# Altium integrated library Analog Devices Data Converters Digital-to-Analog Converters.IntLib: 2231 symbols (part 166 of 181)
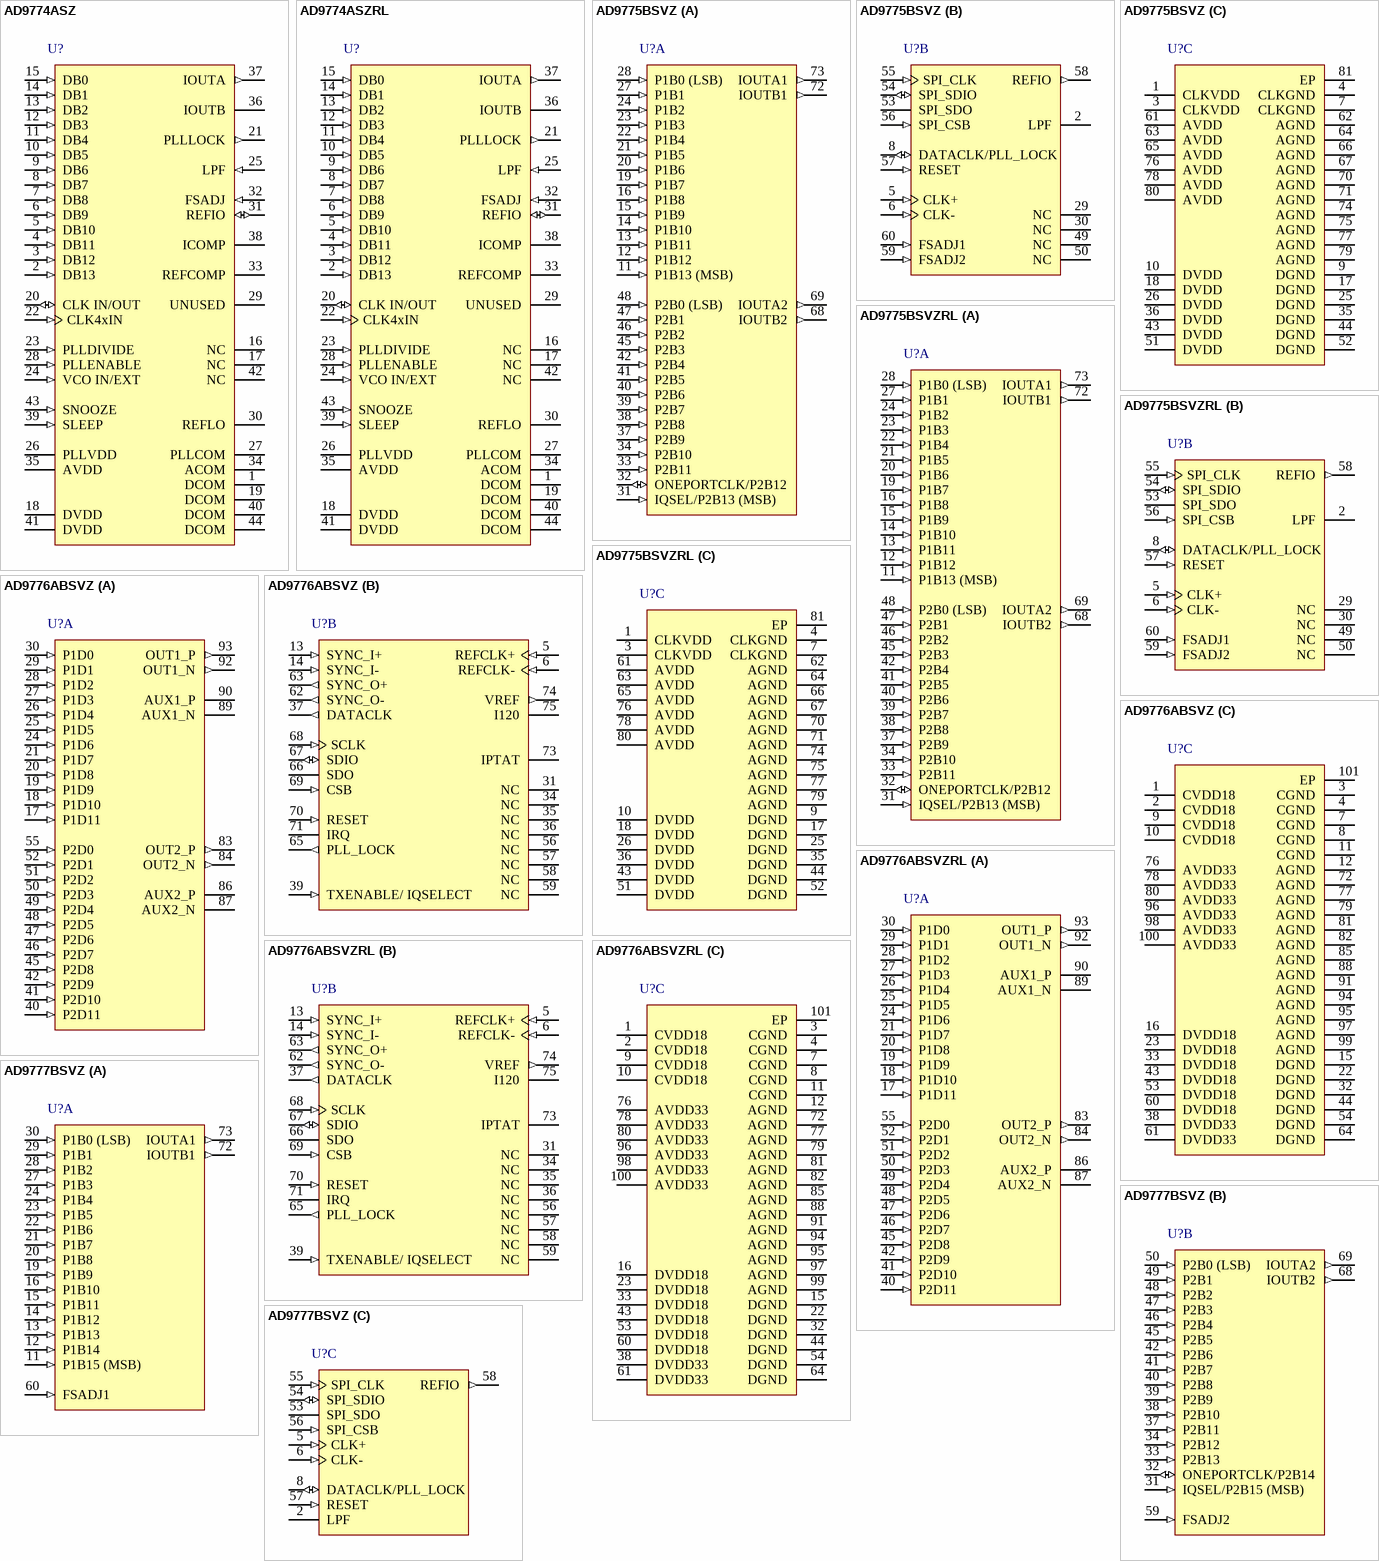
[diagram p279: symbols AD9774ASZ to AD9777BSVZ]

## AD9775BSVZ
designator U?
Dual 14-Bit TxDAC+ with 2x / 4x / 8x Interpolating Filter, 160 Msps, -40 to +85 degC, SV-80-1, Pb-Free, Tray; Generic Part Number: AD9775; Manufacturer: Analog Devices; PartNumber: AD9775BSVZ; # DAC Outputs: 2; Max V+: 3.5V; Op Pwr Diss: 410mW; Resolution (Bits): 14; Settling Time: 11ns; Single Supply: Yes; DatasheetVersion: Rev.E; PackageVersion: Oct-2005; PackageReference: SV-80-1; PackageDescription: 80-Lead Thin Quad Flat Package, Exposed Pad [TQFP_EP]; Supplier 1: Digi-Key; Supplier Part Number 1: AD9775BSVZ-ND; Supplier 2: Mouser; Supplier Part Number 2: 584-AD9775BSVZ; Packing: Tray; RoHS: Y; Mounting Technology: Surface Mount; Code_JEDEC: MS-026-ADD-HD; ComponentLink1Description: Manufacturer URL; ComponentLink1URL: http://www.analog.com/en/index.html; ComponentLink2Description: Datasheet; ComponentLink2URL: http://www.analog.com/static/imported-files/data_sheets/AD9775.pdf; ComponentLink3Description: Package Specification; ComponentLink3URL: http://www.analog.com/static/imported-files/packages/3250240192292635369SV_80_1.pdf; ComponentLink4Description: Product URL; ComponentLink4URL: http://www.analog.com/en/digital-to-analog-converters/da-converters/ad9775/products/product.html
footprint SV-80-1_N (Thin QFP, 80-Leads, Body 12x12mm, Pitch 0.5mm, Thermal Pad 6x6mm, IPC Medium Density)
footprint SV-80-1_L (Thin QFP, 80-Leads, Body 12x12mm, Pitch 0.5mm, Thermal Pad 6x6mm, IPC High Density)
footprint SV-80-1_M (Thin QFP, 80-Leads, Body 12x12mm, Pitch 0.5mm, Thermal Pad 6x6mm, IPC Low Density)
part A pins: 11 P1B13 (MSB) (in) "Port 1 Data Input.", 12 P1B12 (in) "Port 1 Data Input.", 13 P1B11 (in) "Port 1 Data Input.", 14 P1B10 (in) "Port 1 Data Input.", 15 P1B9 (in) "Port 1 Data Input.", 16 P1B8 (in) "Port 1 Data Input.", 19 P1B7 (in) "Port 1 Data Input.", 20 P1B6 (in) "Port 1 Data Input.", 21 P1B5 (in) "Port 1 Data Input.", 22 P1B4 (in) "Port 1 Data Input.", 23 P1B3 (in) "Port 1 Data Input.", 24 P1B2 (in) "Port 1 Data Input.", 27 P1B1 (in) "Port 1 Data Input.", 28 P1B0 (LSB) (in) "Port 1 Data Input.", 31 IQSEL/P2B13 (MSB) (in) "In one-port mode, IQSEL = 1 followed by a rising edge of the differential input clock latches the data into the I channel input register. IQSEL = 0 latches the data into the Q channel input register. In two-port mode, this (See Datasheet)", 32 ONEPORTCLK/P2B12 (io) "With the PLL disabled and the AD9773 in one-port mode, this pin becomes a clock output that runs at twice the input data rate of the I and Q channels. This allows the AD9773 to accept and demux interleaved I and Q data to (See Datasheet)", 33 P2B11 (in) "Port 2 Data Input.", 34 P2B10 (in) "Port 2 Data Input.", 37 P2B9 (in) "Port 2 Data Input.", 38 P2B8 (in) "Port 2 Data Input.", 39 P2B7 (in) "Port 2 Data Input.", 40 P2B6 (in) "Port 2 Data Input.", 41 P2B5 (in) "Port 2 Data Input.", 42 P2B4 (in) "Port 2 Data Input.", 45 P2B3 (in) "Port 2 Data Input.", 46 P2B2 (in) "Port 2 Data Input.", 47 P2B1 (in) "Port 2 Data Input.", 48 P2B0 (LSB) (in) "Port 2 Data Input.", 68 IOUTB2 (out) "Differential DAC Current Output, Q Channel.", 69 IOUTA2 (out) "Differential DAC Current Output, Q Channel.", 72 IOUTB1 (out) "Differential DAC Current Output, I Channel.", 73 IOUTA1 (out) "Differential DAC Current Output, I Channel."
part B pins: 2 LPF "PLL Loop Filter.", 5 CLK+ (in) "Differential Clock Input.", 6 CLK- (in) "Differential Clock Input.", 8 DATACLK/PLL_LOCK (io) "With the PLL enabled, this pin indicates the state of the PLL. A read of a Logic 1 indicates the PLL is in the locked state. Logic 0 indicates the PLL has not achieved lock. This pin can also be programmed to act as either (See Datasheet)", 29 NC "No Connect.", 30 NC "No Connect.", 49 NC "No Connect.", 50 NC "No Connect.", 53 SPI_SDO (hiz) "In the case where SDIO is an input, SDO acts as an output. When SDIO becomes an output, SDO enters a high-Z state. This pin can also be used as an output for the data rate clock. For more information, see the Two-Port Data (See Datasheet)", 54 SPI_SDIO (io) "Bidirectional Data Pin. Data direction is controlled by Bit 7 of Register Address 0x00. The default setting for this bit is 0, which sets SDIO as an input.", 55 SPI_CLK (in) "Data input to the SPI port is registered on the rising edge of SPI_CLK. Data output on the SPI port is registered on the falling edge.", 56 SPI_CSB (in) "Chip Select/SPI Data Synchronization. On momentary logic high, resets SPI port logic and initializes instruction cycle.", 57 RESET (in) "Logic 1 resets all of the SPI port registers, including Address 0x00, to their default values. A software reset can also be done by writing a Logic 1 to SPI Register 0x00, Bit 5. However, the software reset has no effect on (See Datasheet)", 58 REFIO (out) "Reference Output, 1.2 V Nominal.", 59 FSADJ2 (in) "Full-Scale Current Adjust, Q Channel.", 60 FSADJ1 (in) "Full-Scale Current Adjust, I Channel."
part C pins: 1 CLKVDD (power) "Clock Supply Voltage.", 3 CLKVDD (power) "Clock Supply Voltage.", 4 CLKGND (power) "Clock Supply Common.", 7 CLKGND (power) "Clock Supply Common.", 9 DGND (power) "Digital Common.", 10 DVDD (power) "Digital Supply Voltage.", 17 DGND (power) "Digital Common.", 18 DVDD (power) "Digital Supply Voltage.", 25 DGND (power) "Digital Common.", 26 DVDD (power) "Digital Supply Voltage.", 35 DGND (power) "Digital Common.", 36 DVDD (power) "Digital Supply Voltage.", 43 DVDD (power) "Digital Supply Voltage.", 44 DGND (power) "Digital Common.", 51 DVDD (power) "Digital Supply Voltage.", 52 DGND (power) "Digital Common.", 61 AVDD (power) "Analog Supply Voltage.", 62 AGND (power) "Analog Common.", 63 AVDD (power) "Analog Supply Voltage.", 64 AGND (power) "Analog Common.", 65 AVDD (power) "Analog Supply Voltage.", 66 AGND (power) "Analog Common.", 67 AGND (power) "Analog Common.", 70 AGND (power) "Analog Common.", 71 AGND (power) "Analog Common.", 74 AGND (power) "Analog Common.", 75 AGND (power) "Analog Common.", 76 AVDD (power) "Analog Supply Voltage.", 77 AGND (power) "Analog Common.", 78 AVDD (power) "Analog Supply Voltage.", 79 AGND (power) "Analog Common.", 80 AVDD (power) "Analog Supply Voltage.", 81 EP "Exposed Pad."

## AD9775BSVZRL
designator U?
Dual 14-Bit TxDAC+ with 2x / 4x / 8x Interpolating Filter, 160 Msps, -40 to +85 degC, SV-80-1, Pb-Free, Reel; Generic Part Number: AD9775; Manufacturer: Analog Devices; PartNumber: AD9775BSVZRL; # DAC Outputs: 2; Max V+: 3.5V; Op Pwr Diss: 410mW; Resolution (Bits): 14; Settling Time: 11ns; Single Supply: Yes; DatasheetVersion: Rev.E; PackageVersion: Oct-2005; PackageReference: SV-80-1; PackageDescription: 80-Lead Thin Quad Flat Package, Exposed Pad [TQFP_EP]; Supplier 1: Digi-Key; Supplier Part Number 1: AD9775BSVZRL-ND; Supplier 2: Mouser; Supplier Part Number 2: 584-AD9775BSVZR; Packing: Reel; RoHS: Y; Mounting Technology: Surface Mount; Code_JEDEC: MS-026-ADD-HD; ComponentLink1Description: Manufacturer URL; ComponentLink1URL: http://www.analog.com/en/index.html; ComponentLink2Description: Datasheet; ComponentLink2URL: http://www.analog.com/static/imported-files/data_sheets/AD9775.pdf; ComponentLink3Description: Package Specification; ComponentLink3URL: http://www.analog.com/static/imported-files/packages/3250240192292635369SV_80_1.pdf; ComponentLink4Description: Product URL; ComponentLink4URL: http://www.analog.com/en/digital-to-analog-converters/da-converters/ad9775/products/product.html
footprint SV-80-1_N (Thin QFP, 80-Leads, Body 12x12mm, Pitch 0.5mm, Thermal Pad 6x6mm, IPC Medium Density)
footprint SV-80-1_L (Thin QFP, 80-Leads, Body 12x12mm, Pitch 0.5mm, Thermal Pad 6x6mm, IPC High Density)
footprint SV-80-1_M (Thin QFP, 80-Leads, Body 12x12mm, Pitch 0.5mm, Thermal Pad 6x6mm, IPC Low Density)
part A pins: 11 P1B13 (MSB) (in) "Port 1 Data Input.", 12 P1B12 (in) "Port 1 Data Input.", 13 P1B11 (in) "Port 1 Data Input.", 14 P1B10 (in) "Port 1 Data Input.", 15 P1B9 (in) "Port 1 Data Input.", 16 P1B8 (in) "Port 1 Data Input.", 19 P1B7 (in) "Port 1 Data Input.", 20 P1B6 (in) "Port 1 Data Input.", 21 P1B5 (in) "Port 1 Data Input.", 22 P1B4 (in) "Port 1 Data Input.", 23 P1B3 (in) "Port 1 Data Input.", 24 P1B2 (in) "Port 1 Data Input.", 27 P1B1 (in) "Port 1 Data Input.", 28 P1B0 (LSB) (in) "Port 1 Data Input.", 31 IQSEL/P2B13 (MSB) (in) "In one-port mode, IQSEL = 1 followed by a rising edge of the differential input clock latches the data into the I channel input register. IQSEL = 0 latches the data into the Q channel input register. In two-port mode, this (See Datasheet)", 32 ONEPORTCLK/P2B12 (io) "With the PLL disabled and the AD9773 in one-port mode, this pin becomes a clock output that runs at twice the input data rate of the I and Q channels. This allows the AD9773 to accept and demux interleaved I and Q data to (See Datasheet)", 33 P2B11 (in) "Port 2 Data Input.", 34 P2B10 (in) "Port 2 Data Input.", 37 P2B9 (in) "Port 2 Data Input.", 38 P2B8 (in) "Port 2 Data Input.", 39 P2B7 (in) "Port 2 Data Input.", 40 P2B6 (in) "Port 2 Data Input.", 41 P2B5 (in) "Port 2 Data Input.", 42 P2B4 (in) "Port 2 Data Input.", 45 P2B3 (in) "Port 2 Data Input.", 46 P2B2 (in) "Port 2 Data Input.", 47 P2B1 (in) "Port 2 Data Input.", 48 P2B0 (LSB) (in) "Port 2 Data Input.", 68 IOUTB2 (out) "Differential DAC Current Output, Q Channel.", 69 IOUTA2 (out) "Differential DAC Current Output, Q Channel.", 72 IOUTB1 (out) "Differential DAC Current Output, I Channel.", 73 IOUTA1 (out) "Differential DAC Current Output, I Channel."
part B pins: 2 LPF "PLL Loop Filter.", 5 CLK+ (in) "Differential Clock Input.", 6 CLK- (in) "Differential Clock Input.", 8 DATACLK/PLL_LOCK (io) "With the PLL enabled, this pin indicates the state of the PLL. A read of a Logic 1 indicates the PLL is in the locked state. Logic 0 indicates the PLL has not achieved lock. This pin can also be programmed to act as either (See Datasheet)", 29 NC "No Connect.", 30 NC "No Connect.", 49 NC "No Connect.", 50 NC "No Connect.", 53 SPI_SDO (hiz) "In the case where SDIO is an input, SDO acts as an output. When SDIO becomes an output, SDO enters a high-Z state. This pin can also be used as an output for the data rate clock. For more information, see the Two-Port Data (See Datasheet)", 54 SPI_SDIO (io) "Bidirectional Data Pin. Data direction is controlled by Bit 7 of Register Address 0x00. The default setting for this bit is 0, which sets SDIO as an input.", 55 SPI_CLK (in) "Data input to the SPI port is registered on the rising edge of SPI_CLK. Data output on the SPI port is registered on the falling edge.", 56 SPI_CSB (in) "Chip Select/SPI Data Synchronization. On momentary logic high, resets SPI port logic and initializes instruction cycle.", 57 RESET (in) "Logic 1 resets all of the SPI port registers, including Address 0x00, to their default values. A software reset can also be done by writing a Logic 1 to SPI Register 0x00, Bit 5. However, the software reset has no effect on (See Datasheet)", 58 REFIO (out) "Reference Output, 1.2 V Nominal.", 59 FSADJ2 (in) "Full-Scale Current Adjust, Q Channel.", 60 FSADJ1 (in) "Full-Scale Current Adjust, I Channel."
part C pins: 1 CLKVDD (power) "Clock Supply Voltage.", 3 CLKVDD (power) "Clock Supply Voltage.", 4 CLKGND (power) "Clock Supply Common.", 7 CLKGND (power) "Clock Supply Common.", 9 DGND (power) "Digital Common.", 10 DVDD (power) "Digital Supply Voltage.", 17 DGND (power) "Digital Common.", 18 DVDD (power) "Digital Supply Voltage.", 25 DGND (power) "Digital Common.", 26 DVDD (power) "Digital Supply Voltage.", 35 DGND (power) "Digital Common.", 36 DVDD (power) "Digital Supply Voltage.", 43 DVDD (power) "Digital Supply Voltage.", 44 DGND (power) "Digital Common.", 51 DVDD (power) "Digital Supply Voltage.", 52 DGND (power) "Digital Common.", 61 AVDD (power) "Analog Supply Voltage.", 62 AGND (power) "Analog Common.", 63 AVDD (power) "Analog Supply Voltage.", 64 AGND (power) "Analog Common.", 65 AVDD (power) "Analog Supply Voltage.", 66 AGND (power) "Analog Common.", 67 AGND (power) "Analog Common.", 70 AGND (power) "Analog Common.", 71 AGND (power) "Analog Common.", 74 AGND (power) "Analog Common.", 75 AGND (power) "Analog Common.", 76 AVDD (power) "Analog Supply Voltage.", 77 AGND (power) "Analog Common.", 78 AVDD (power) "Analog Supply Voltage.", 79 AGND (power) "Analog Common.", 80 AVDD (power) "Analog Supply Voltage.", 81 EP "Exposed Pad."

## AD9776ABSVZ
designator U?
Dual 12-Bit Digital-to-Analog Converter, 1 Gsps, -40 to +85 degC, SV-100-1, Pb-Free, Tray; Generic Part Number: AD9776A; Manufacturer: Analog Devices; PartNumber: AD9776ABSVZ; # DAC Outputs: 2; Max V+: 3.47V; Op Pwr Diss: 300mW; Resolution (Bits): 12; Single Supply: No; DatasheetVersion: Rev.B; PackageVersion: 040506-A; PackageReference: SV-100-1; PackageDescription: 100-Lead Thin Quad Flat Package, Exposed Pad [TQFP_EP]; Supplier 1: Digi-Key; Supplier Part Number 1: AD9776ABSVZ-ND; Supplier 2: Newark; Supplier Part Number 2: 52M3009; Supplier 3: Mouser; Supplier Part Number 3: 584-AD9776ABSVZ; Packing: Tray; RoHS: Y; Mounting Technology: Surface Mount; Code_JEDEC: MS-026-AED-HD; ComponentLink1Description: Manufacturer URL; ComponentLink1URL: http://www.analog.com/en/index.html; ComponentLink2Description: Datasheet; ComponentLink2URL: http://www.analog.com/static/imported-files/data_sheets/AD9776A_AD9778A_AD9779A.pdf; ComponentLink3Description: Package Specification; ComponentLink3URL: http://www.analog.com/static/imported-files/packages/PKG_PDF/TQFP_ED(SV)/SV_100_1.pdf; ComponentLink4Description: Product URL; ComponentLink4URL: http://www.analog.com/en/digital-to-analog-converters/da-converters/ad9776a/products/product.html
footprint SV-100-1_N (Thin QFP, 100-Leads, Body 14x14mm, Pitch 0.5mm, Thermal Pad 6.5x6.5mm, IPC Medium Density)
footprint SV-100-1_L (Thin QFP, 100-Leads, Body 14x14mm, Pitch 0.5mm, Thermal Pad 6.5x6.5mm, IPC High Density)
footprint SV-100-1_M (Thin QFP, 100-Leads, Body 14x14mm, Pitch 0.5mm, Thermal Pad 6.5x6.5mm, IPC Low Density)
part A pins: 17 P1D11 (in) "Port 1, Data Input D11 (MSB).", 18 P1D10 (in) "Port 1, Data Input D10.", 19 P1D9 (in) "Port 1, Data Input D9.", 20 P1D8 (in) "Port 1, Data Input D8.", 21 P1D7 (in) "Port 1, Data Input D7.", 24 P1D6 (in) "Port 1, Data Input D6.", 25 P1D5 (in) "Port 1, Data Input D5.", 26 P1D4 (in) "Port 1, Data Input D4.", 27 P1D3 (in) "Port 1, Data Input D3.", 28 P1D2 (in) "Port 1, Data Input D2.", 29 P1D1 (in) "Port 1, Data Input D1.", 30 P1D0 (in) "Port 1, Data Input D0 (LSB).", 40 P2D11 (in) "Port 2, Data Input D11 (MSB).", 41 P2D10 (in) "Port 2, Data Input D10.", 42 P2D9 (in) "Port 2, Data Input D9.", 45 P2D8 (in) "Port 2, Data Input D8.", 46 P2D7 (in) "Port 2, Data Input D7.", 47 P2D6 (in) "Port 2, Data Input D6.", 48 P2D5 (in) "Port 2, Data Input D5.", 49 P2D4 (in) "Port 2, Data Input D4.", 50 P2D3 (in) "Port 2, Data Input D3.", 51 P2D2 (in) "Port 2, Data Input D2.", 52 P2D1 (in) "Port 2, Data Input D1.", 55 P2D0 (in) "Port 2, Data Input D0 (LSB).", 83 OUT2_P (out) "Differential DAC Current Output, Channel 2.", 84 OUT2_N (out) "Differential DAC Current Output, Channel 2.", 86 AUX2_P (hiz) "Auxiliary DAC Current Output, Channel 2.", 87 AUX2_N (hiz) "Auxiliary DAC Current Output, Channel 2.", 89 AUX1_N (hiz) "Analog Ground.", 90 AUX1_P (hiz) "Auxiliary DAC Current Output, Channel 1.", 92 OUT1_N (out) "Differential DAC Current Output, Channel 1.", 93 OUT1_P (out) "Differential DAC Current Output, Channel 1."
part B pins: 5 REFCLK+ (in) "Differential Clock Input.", 6 REFCLK- (in) "Differential Clock Input.", 13 SYNC_I+ (in) "Differential Synchronization Input.", 14 SYNC_I- (in) "Differential Synchronization Input.", 31 NC "No Connect.", 34 NC "No Connect.", 35 NC "No Connect.", 36 NC "No Connect.", 37 DATACLK (out) "Data Clock Output.", 39 TXENABLE/ IQSELECT (in) "Transmit Enable. In single port mode, this pin also functions as IQSELECT.", 56 NC "No Connect.", 57 NC "No Connect.", 58 NC "No Connect.", 59 NC "No Connect.", 62 SYNC_O- (out) "Differential Synchronization Output.", 63 SYNC_O+ (out) "Differential Synchronization Output.", 65 PLL_LOCK (out) "PLL Lock Indicator.", 66 SDO (hiz) "3-Wire Interface Port Data Output", 67 SDIO (io) "3-Wire Interface Port Data Input/Output.", 68 SCLK (in) "3-Wire Interface Port Clock.", 69 CSB (in) "3-Wire Interface Port Chip Select Bar.", 70 RESET (in) "Reset, Active High.", 71 IRQ (oc) "Interrupt Request.", 73 IPTAT "Factory Test Pin. Output current is proportional to absolute temperature, approximately 14 uA at 25degreesC with approximately 20 nA/degreesC slope. This pin should remain floating.", 74 VREF (out) "Voltage Reference Output.", 75 I120 "120 uA Reference Current."
part C pins: 1 CVDD18 (power) "1.8 V Clock Supply.", 2 CVDD18 (power) "1.8 V Clock Supply.", 3 CGND (power) "Clock Ground.", 4 CGND (power) "Clock Ground.", 7 CGND (power) "Clock Ground.", 8 CGND (power) "Clock Ground.", 9 CVDD18 (power) "1.8 V Clock Supply.", 10 CVDD18 (power) "1.8 V Clock Supply.", 11 CGND (power) "Clock Ground.", 12 AGND (power) "Analog Ground.", 15 DGND (power) "Digital Ground.", 16 DVDD18 (power) "1.8 V Digital Supply.", 22 DGND (power) "Digital Ground.", 23 DVDD18 (power) "1.8 V Digital Supply.", 32 DGND (power) "Digital Ground.", 33 DVDD18 (power) "1.8 V Digital Supply.", 38 DVDD33 (power) "3.3 V Digital Supply.", 43 DVDD18 (power) "1.8 V Digital Supply.", 44 DGND (power) "Digital Ground.", 53 DVDD18 (power) "1.8 V Digital Supply.", 54 DGND (power) "Digital Ground.", 60 DVDD18 (power) "1.8 V Digital Supply.", 61 DVDD33 (power) "3.3 V Digital Supply.", 64 DGND (power) "Digital Ground.", 72 AGND (power) "Analog Ground.", 76 AVDD33 (power) "3.3 V Analog Supply.", 77 AGND (power) "Analog Ground.", 78 AVDD33 (power) "3.3 V Analog Supply.", 79 AGND (power) "Analog Ground.", 80 AVDD33 (power) "3.3 V Analog Supply.", 81 AGND (power) "Analog Ground.", 82 AGND (power) "Analog Ground.", 85 AGND (power) "Analog Ground.", 88 AGND (power) "Analog Ground.", 91 AGND (power) "Auxiliary DAC Current Output, Channel 1.", 94 AGND (power) "Analog Ground.", 95 AGND (power) "Analog Ground.", 96 AVDD33 (power) "3.3 V Analog Supply.", 97 AGND (power) "Analog Ground.", 98 AVDD33 (power) "3.3 V Analog Supply.", 99 AGND (power) "Analog Ground.", 100 AVDD33 (power) "3.3 V Analog Supply.", 101 EP (power) "Exposed Pad"

## AD9776ABSVZRL
designator U?
Dual 12-Bit Digital-to-Analog Converter, 1 Gsps, -40 to +85 degC, SV-100-1, Pb-Free, Reel; Generic Part Number: AD9776A; Manufacturer: Analog Devices; PartNumber: AD9776ABSVZRL; # DAC Outputs: 2; Max V+: 3.47V; Op Pwr Diss: 300mW; Resolution (Bits): 12; Single Supply: No; DatasheetVersion: Rev.B; PackageVersion: 040506-A; PackageReference: SV-100-1; PackageDescription: 100-Lead Thin Quad Flat Package, Exposed Pad [TQFP_EP]; Supplier 1: Digi-Key; Supplier Part Number 1: AD9776ABSVZRL-ND; Supplier 2: Mouser; Supplier Part Number 2: 584-AD9776ABSVZR; Packing: Reel; RoHS: Y; Mounting Technology: Surface Mount; Code_JEDEC: MS-026-AED-HD; ComponentLink1Description: Manufacturer URL; ComponentLink1URL: http://www.analog.com/en/index.html; ComponentLink2Description: Datasheet; ComponentLink2URL: http://www.analog.com/static/imported-files/data_sheets/AD9776A_AD9778A_AD9779A.pdf; ComponentLink3Description: Package Specification; ComponentLink3URL: http://www.analog.com/static/imported-files/packages/PKG_PDF/TQFP_ED(SV)/SV_100_1.pdf; ComponentLink4Description: Product URL; ComponentLink4URL: http://www.analog.com/en/digital-to-analog-converters/da-converters/ad9776a/products/product.html
footprint SV-100-1_N (Thin QFP, 100-Leads, Body 14x14mm, Pitch 0.5mm, Thermal Pad 6.5x6.5mm, IPC Medium Density)
footprint SV-100-1_L (Thin QFP, 100-Leads, Body 14x14mm, Pitch 0.5mm, Thermal Pad 6.5x6.5mm, IPC High Density)
footprint SV-100-1_M (Thin QFP, 100-Leads, Body 14x14mm, Pitch 0.5mm, Thermal Pad 6.5x6.5mm, IPC Low Density)
part A pins: 17 P1D11 (in) "Port 1, Data Input D11 (MSB).", 18 P1D10 (in) "Port 1, Data Input D10.", 19 P1D9 (in) "Port 1, Data Input D9.", 20 P1D8 (in) "Port 1, Data Input D8.", 21 P1D7 (in) "Port 1, Data Input D7.", 24 P1D6 (in) "Port 1, Data Input D6.", 25 P1D5 (in) "Port 1, Data Input D5.", 26 P1D4 (in) "Port 1, Data Input D4.", 27 P1D3 (in) "Port 1, Data Input D3.", 28 P1D2 (in) "Port 1, Data Input D2.", 29 P1D1 (in) "Port 1, Data Input D1.", 30 P1D0 (in) "Port 1, Data Input D0 (LSB).", 40 P2D11 (in) "Port 2, Data Input D11 (MSB).", 41 P2D10 (in) "Port 2, Data Input D10.", 42 P2D9 (in) "Port 2, Data Input D9.", 45 P2D8 (in) "Port 2, Data Input D8.", 46 P2D7 (in) "Port 2, Data Input D7.", 47 P2D6 (in) "Port 2, Data Input D6.", 48 P2D5 (in) "Port 2, Data Input D5.", 49 P2D4 (in) "Port 2, Data Input D4.", 50 P2D3 (in) "Port 2, Data Input D3.", 51 P2D2 (in) "Port 2, Data Input D2.", 52 P2D1 (in) "Port 2, Data Input D1.", 55 P2D0 (in) "Port 2, Data Input D0 (LSB).", 83 OUT2_P (out) "Differential DAC Current Output, Channel 2.", 84 OUT2_N (out) "Differential DAC Current Output, Channel 2.", 86 AUX2_P (hiz) "Auxiliary DAC Current Output, Channel 2.", 87 AUX2_N (hiz) "Auxiliary DAC Current Output, Channel 2.", 89 AUX1_N (hiz) "Analog Ground.", 90 AUX1_P (hiz) "Auxiliary DAC Current Output, Channel 1.", 92 OUT1_N (out) "Differential DAC Current Output, Channel 1.", 93 OUT1_P (out) "Differential DAC Current Output, Channel 1."
part B pins: 5 REFCLK+ (in) "Differential Clock Input.", 6 REFCLK- (in) "Differential Clock Input.", 13 SYNC_I+ (in) "Differential Synchronization Input.", 14 SYNC_I- (in) "Differential Synchronization Input.", 31 NC "No Connect.", 34 NC "No Connect.", 35 NC "No Connect.", 36 NC "No Connect.", 37 DATACLK (out) "Data Clock Output.", 39 TXENABLE/ IQSELECT (in) "Transmit Enable. In single port mode, this pin also functions as IQSELECT.", 56 NC "No Connect.", 57 NC "No Connect.", 58 NC "No Connect.", 59 NC "No Connect.", 62 SYNC_O- (out) "Differential Synchronization Output.", 63 SYNC_O+ (out) "Differential Synchronization Output.", 65 PLL_LOCK (out) "PLL Lock Indicator.", 66 SDO (hiz) "3-Wire Interface Port Data Output", 67 SDIO (io) "3-Wire Interface Port Data Input/Output.", 68 SCLK (in) "3-Wire Interface Port Clock.", 69 CSB (in) "3-Wire Interface Port Chip Select Bar.", 70 RESET (in) "Reset, Active High.", 71 IRQ (oc) "Interrupt Request.", 73 IPTAT "Factory Test Pin. Output current is proportional to absolute temperature, approximately 14 uA at 25degreesC with approximately 20 nA/degreesC slope. This pin should remain floating.", 74 VREF (out) "Voltage Reference Output.", 75 I120 "120 uA Reference Current."
part C pins: 1 CVDD18 (power) "1.8 V Clock Supply.", 2 CVDD18 (power) "1.8 V Clock Supply.", 3 CGND (power) "Clock Ground.", 4 CGND (power) "Clock Ground.", 7 CGND (power) "Clock Ground.", 8 CGND (power) "Clock Ground.", 9 CVDD18 (power) "1.8 V Clock Supply.", 10 CVDD18 (power) "1.8 V Clock Supply.", 11 CGND (power) "Clock Ground.", 12 AGND (power) "Analog Ground.", 15 DGND (power) "Digital Ground.", 16 DVDD18 (power) "1.8 V Digital Supply.", 22 DGND (power) "Digital Ground.", 23 DVDD18 (power) "1.8 V Digital Supply.", 32 DGND (power) "Digital Ground.", 33 DVDD18 (power) "1.8 V Digital Supply.", 38 DVDD33 (power) "3.3 V Digital Supply.", 43 DVDD18 (power) "1.8 V Digital Supply.", 44 DGND (power) "Digital Ground.", 53 DVDD18 (power) "1.8 V Digital Supply.", 54 DGND (power) "Digital Ground.", 60 DVDD18 (power) "1.8 V Digital Supply.", 61 DVDD33 (power) "3.3 V Digital Supply.", 64 DGND (power) "Digital Ground.", 72 AGND (power) "Analog Ground.", 76 AVDD33 (power) "3.3 V Analog Supply.", 77 AGND (power) "Analog Ground.", 78 AVDD33 (power) "3.3 V Analog Supply.", 79 AGND (power) "Analog Ground.", 80 AVDD33 (power) "3.3 V Analog Supply.", 81 AGND (power) "Analog Ground.", 82 AGND (power) "Analog Ground.", 85 AGND (power) "Analog Ground.", 88 AGND (power) "Analog Ground.", 91 AGND (power) "Auxiliary DAC Current Output, Channel 1.", 94 AGND (power) "Analog Ground.", 95 AGND (power) "Analog Ground.", 96 AVDD33 (power) "3.3 V Analog Supply.", 97 AGND (power) "Analog Ground.", 98 AVDD33 (power) "3.3 V Analog Supply.", 99 AGND (power) "Analog Ground.", 100 AVDD33 (power) "3.3 V Analog Supply.", 101 EP (power) "Exposed Pad"

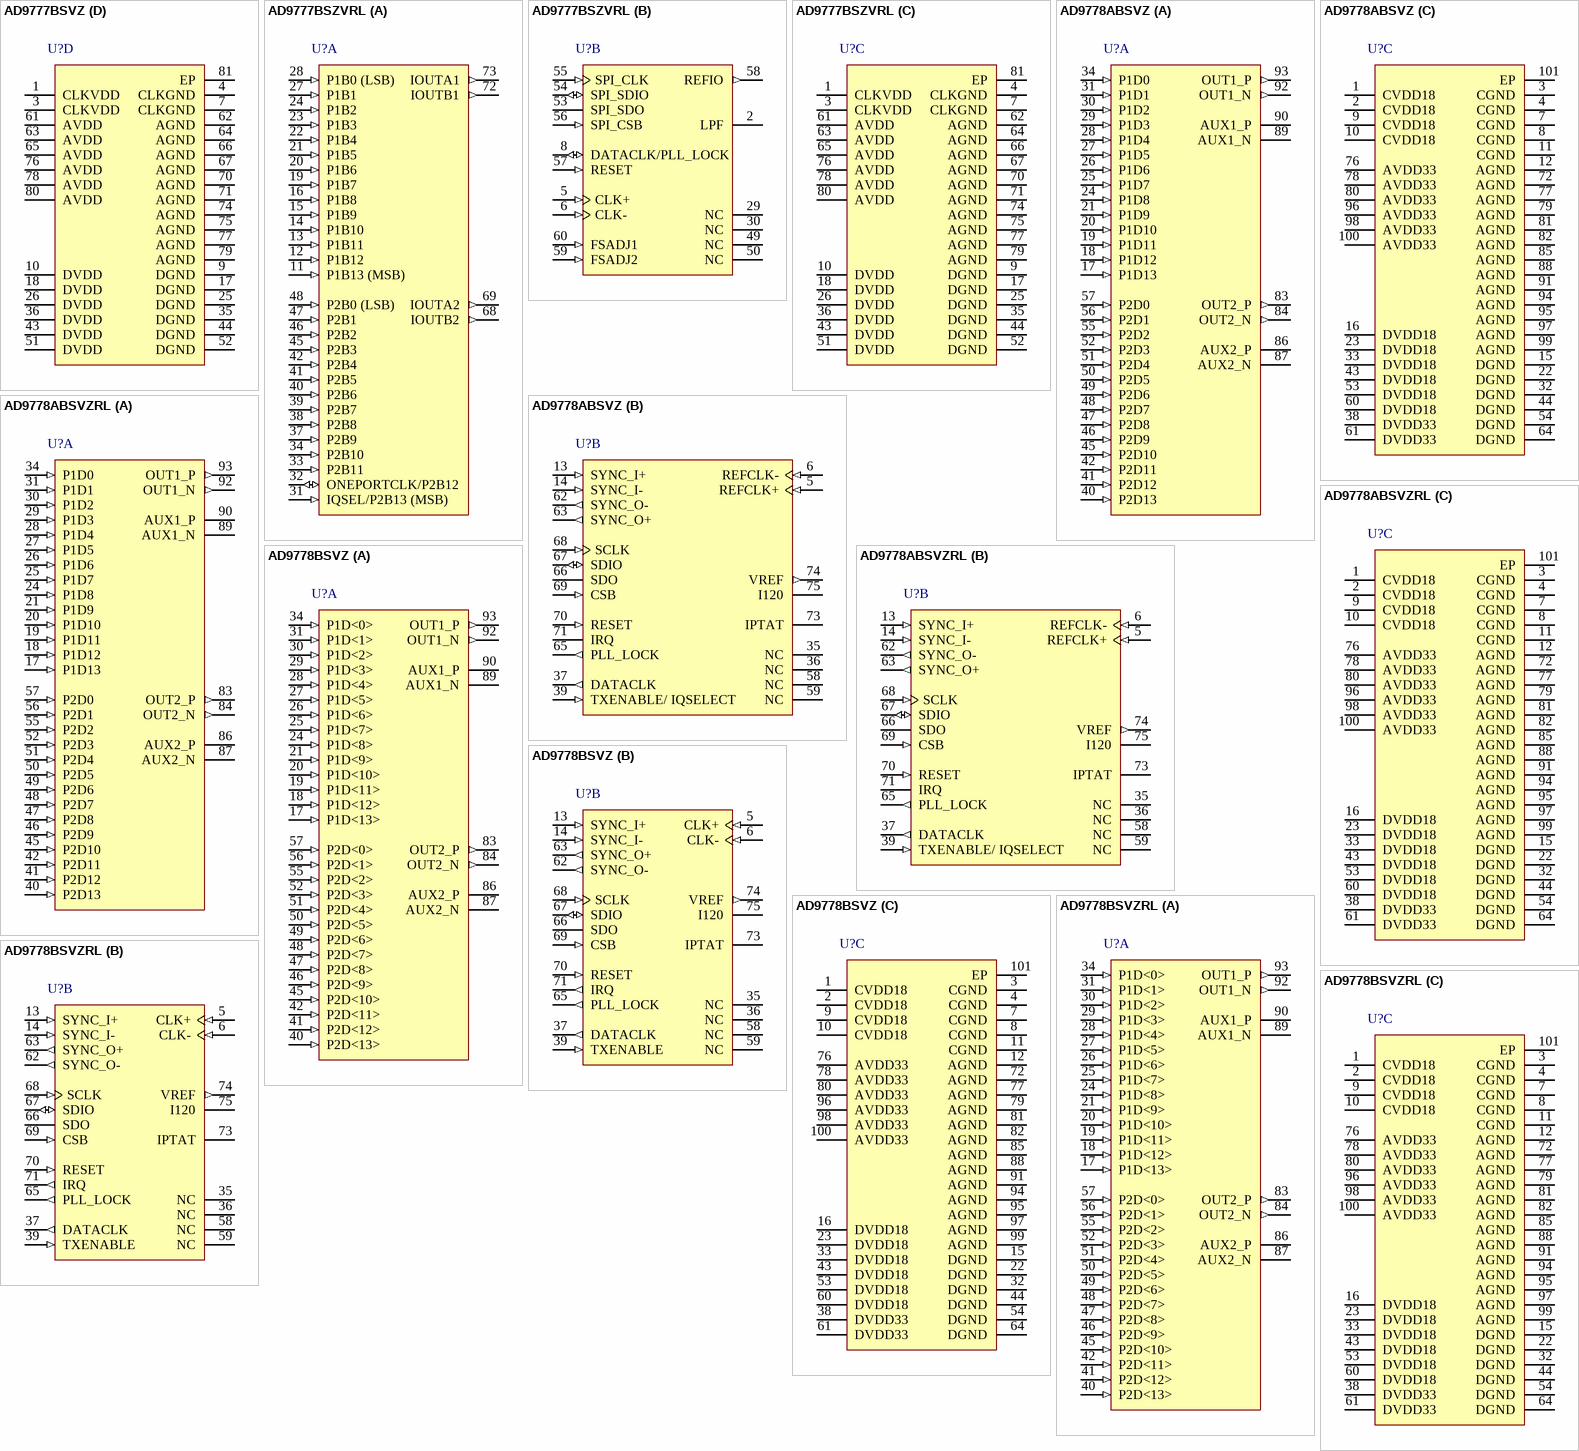
[diagram p102: symbols AD9777BSVZ to AD9778BSVZRL]

## AD9777BSVZ
designator U?
Dual 16-Bit TxDAC+, 160 Msps, -40 to +85 degC, SV-80-1, Pb-Free, Tray; Generic Part Number: AD9777; Manufacturer: Analog Devices; PartNumber: AD9777BSVZ; # DAC Outputs: 2; Max V+: 3.5V; Op Pwr Diss: 410mW; Resolution (Bits): 16; Settling Time: 11ns; Single Supply: Yes; DatasheetVersion: Rev.C; PackageVersion: Oct-2005; PackageReference: SV-80-1; PackageDescription: 80-Lead Thin Quad Flat Package, Exposed Pad [TQFP_EP]; Supplier 1: Digi-Key; Supplier Part Number 1: AD9777BSVZ-ND; Supplier 2: Farnell; Supplier Part Number 2: 2305706; Supplier 3: Newark; Supplier Part Number 3: 59K7438; Supplier 4: Mouser; Supplier Part Number 4: 584-AD9777BSVZ; Packing: Tray; RoHS: Y; Mounting Technology: Surface Mount; Code_JEDEC: MS-026-ADD-HD; ComponentLink1Description: Manufacturer URL; ComponentLink1URL: http://www.analog.com/en/index.html; ComponentLink2Description: Datasheet; ComponentLink2URL: http://www.analog.com/static/imported-files/data_sheets/AD9777.pdf; ComponentLink3Description: Package Specification; ComponentLink3URL: http://www.analog.com/static/imported-files/packages/3250240192292635369SV_80_1.pdf; ComponentLink4Description: Product URL; ComponentLink4URL: http://www.analog.com/en/digital-to-analog-converters/da-converters/ad9777/products/product.html
footprint SV-80-1_N (Thin QFP, 80-Leads, Body 12x12mm, Pitch 0.5mm, Thermal Pad 6x6mm, IPC Medium Density)
footprint SV-80-1_L (Thin QFP, 80-Leads, Body 12x12mm, Pitch 0.5mm, Thermal Pad 6x6mm, IPC High Density)
footprint SV-80-1_M (Thin QFP, 80-Leads, Body 12x12mm, Pitch 0.5mm, Thermal Pad 6x6mm, IPC Low Density)
part A pins: 11 P1B15 (MSB) (in) "Port 1 Data Input.", 12 P1B14 (in) "Port 1 Data Input.", 13 P1B13 (in) "Port 1 Data Input.", 14 P1B12 (in) "Port 1 Data Input.", 15 P1B11 (in) "Port 1 Data Input.", 16 P1B10 (in) "Port 1 Data Input.", 19 P1B9 (in) "Port 1 Data Input.", 20 P1B8 (in) "Port 1 Data Input.", 21 P1B7 (in) "Port 1 Data Input.", 22 P1B6 (in) "Port 1 Data Input.", 23 P1B5 (in) "Port 1 Data Input.", 24 P1B4 (in) "Port 1 Data Input.", 27 P1B3 (in) "Port 1 Data Input.", 28 P1B2 (in) "Port 1 Data Input.", 29 P1B1 (in) "Port 1 Data Input.", 30 P1B0 (LSB) (in) "Port 1 Data Input.", 60 FSADJ1 (in) "Full-Scale Current Adjust, I Channel.", 72 IOUTB1 (out) "Differential DAC Current Outputs, I Channel.", 73 IOUTA1 (out) "Differential DAC Current Outputs, I Channel."
part B pins: 31 IQSEL/P2B15 (MSB) (in) "In one-port mode, IQSEL = 1 followed by a rising edge of the differential input clock latches the data into the I channel input register. IQSEL = 0 latches the data into the Q channel input register. In two-port mode, this (See Datasheet)", 32 ONEPORTCLK/P2B14 (io) "With the PLL disabled and the AD9777 in one-port mode, this pin becomes a clock output that runs at twice the input data rate of the I and Q channels. This allows the AD9777 to accept and demux interleaved I and Q data to (See Datasheet)", 33 P2B13 (in) "Port 2 Data Input.", 34 P2B12 (in) "Port 2 Data Input.", 37 P2B11 (in) "Port 2 Data Input.", 38 P2B10 (in) "Port 2 Data Input.", 39 P2B9 (in) "Port 2 Data Input.", 40 P2B8 (in) "Port 2 Data Input.", 41 P2B7 (in) "Port 2 Data Input.", 42 P2B6 (in) "Port 2 Data Input.", 45 P2B5 (in) "Port 2 Data Input.", 46 P2B4 (in) "Port 2 Data Input.", 47 P2B3 (in) "Port 2 Data Input.", 48 P2B2 (in) "Port 2 Data Input.", 49 P2B1 (in) "Port 2 Data Input.", 50 P2B0 (LSB) (in) "Port 2 Data Input.", 59 FSADJ2 (in) "Full-Scale Current Adjust, I Channel.", 68 IOUTB2 (out) "Differential DAC Current Outputs, Q Channel.", 69 IOUTA2 (out) "Differential DAC Current Outputs, Q Channel."
part C pins: 2 LPF "PLL Loop Filter.", 5 CLK+ (in) "Differential Clock Input.", 6 CLK- (in) "Differential Clock Input.", 8 DATACLK/PLL_LOCK (io) "With the PLL enabled, this pin indicates the state of the PLL. A read of a Logic 1 indicates the PLL is in the locked state. Logic 0 indicates the PLL has not achieved lock. This pin may also be programmed to act as either (See Datasheet)", 53 SPI_SDO (hiz) "In the case where SDIO is an input, SDO acts as an output. When SDIO becomes an output, SDO enters a High-Z state. This pin can also be used as an output for the data rate clock. For more information, see the Two Port Data (See Datasheet)", 54 SPI_SDIO (io) "Bidirectional Data Pin. Data direction is controlled by Bit 7 of Register Address 00h. The default setting for this bit is 0, which sets SDIO as an input.", 55 SPI_CLK (in) "Data input to the SPI port is registered on the rising edge of SPI_CLK. Data output on the SPI port is registered on the falling edge.", 56 SPI_CSB (in) "Chip Select/SPI Data Synchronization. On momentary logic high, resets SPI port logic and initializes instruction cycle.", 57 RESET (in) "Logic 1 resets all of the SPI port registers, including Address 00h, to their default values. A software reset can also be done by writing a Logic 1 to SPI Register 00h, Bit 5. However, the software reset has no effect on (See Datasheet)", 58 REFIO (out) "Reference Output, 1.2 V Nominal."
part D pins: 1 CLKVDD (power) "Clock Supply Voltage.", 3 CLKVDD (power) "Clock Supply Voltage.", 4 CLKGND (power) "Clock Supply Common.", 7 CLKGND (power) "Clock Supply Common.", 9 DGND (power) "Digital Common.", 10 DVDD (power) "Digital Supply Voltage.", 17 DGND (power) "Digital Common.", 18 DVDD (power) "Digital Supply Voltage.", 25 DGND (power) "Digital Common.", 26 DVDD (power) "Digital Supply Voltage.", 35 DGND (power) "Digital Common.", 36 DVDD (power) "Digital Supply Voltage.", 43 DVDD (power) "Digital Supply Voltage.", 44 DGND (power) "Digital Common.", 51 DVDD (power) "Digital Supply Voltage.", 52 DGND (power) "Digital Common.", 61 AVDD (power) "Analog Supply Voltage.", 62 AGND (power) "Analog Common.", 63 AVDD (power) "Analog Supply Voltage.", 64 AGND (power) "Analog Common.", 65 AVDD (power) "Analog Supply Voltage.", 66 AGND (power) "Analog Common.", 67 AGND (power) "Analog Common.", 70 AGND (power) "Analog Common.", 71 AGND (power) "Analog Common.", 74 AGND (power) "Analog Common.", 75 AGND (power) "Analog Common.", 76 AVDD (power) "Analog Supply Voltage.", 77 AGND (power) "Analog Common.", 78 AVDD (power) "Analog Supply Voltage.", 79 AGND (power) "Analog Common.", 80 AVDD (power) "Analog Supply Voltage.", 81 EP "EXPOSED PAD"

## AD9777BSZVRL
designator U?
Dual 16-Bit TxDAC+, 160 Msps, -40 to +85 degC, SV-80-1, Pb-Free, Reel; Generic Part Number: AD9777; Manufacturer: Analog Devices; PartNumber: AD9777BSZVRL; # DAC Outputs: 2; Max V+: 3.5V; Op Pwr Diss: 410mW; Resolution (Bits): 16; Settling Time: 11ns; Single Supply: Yes; DatasheetVersion: Rev.C; PackageVersion: Oct-2005; PackageReference: SV-80-1; PackageDescription: 80-Lead Thin Quad Flat Package, Exposed Pad [TQFP_EP]; Packing: Reel; RoHS: Y; Mounting Technology: Surface Mount; Code_JEDEC: MS-026-ADD-HD; ComponentLink1Description: Manufacturer URL; ComponentLink1URL: http://www.analog.com/en/index.html; ComponentLink2Description: Datasheet; ComponentLink2URL: http://www.analog.com/static/imported-files/data_sheets/AD9777.pdf; ComponentLink3Description: Package Specification; ComponentLink3URL: http://www.analog.com/static/imported-files/packages/3250240192292635369SV_80_1.pdf; ComponentLink4Description: Product URL; ComponentLink4URL: http://www.analog.com/en/digital-to-analog-converters/da-converters/ad9777/products/product.html
footprint SV-80-1_N (Thin QFP, 80-Leads, Body 12x12mm, Pitch 0.5mm, Thermal Pad 6x6mm, IPC Medium Density)
footprint SV-80-1_L (Thin QFP, 80-Leads, Body 12x12mm, Pitch 0.5mm, Thermal Pad 6x6mm, IPC High Density)
footprint SV-80-1_M (Thin QFP, 80-Leads, Body 12x12mm, Pitch 0.5mm, Thermal Pad 6x6mm, IPC Low Density)
part A pins: 11 P1B13 (MSB) (in) "Port 1 Data Input.", 12 P1B12 (in) "Port 1 Data Input.", 13 P1B11 (in) "Port 1 Data Input.", 14 P1B10 (in) "Port 1 Data Input.", 15 P1B9 (in) "Port 1 Data Input.", 16 P1B8 (in) "Port 1 Data Input.", 19 P1B7 (in) "Port 1 Data Input.", 20 P1B6 (in) "Port 1 Data Input.", 21 P1B5 (in) "Port 1 Data Input.", 22 P1B4 (in) "Port 1 Data Input.", 23 P1B3 (in) "Port 1 Data Input.", 24 P1B2 (in) "Port 1 Data Input.", 27 P1B1 (in) "Port 1 Data Input.", 28 P1B0 (LSB) (in) "Port 1 Data Input.", 31 IQSEL/P2B13 (MSB) (in) "In one-port mode, IQSEL = 1 followed by a rising edge of the differential input clock latches the data into the I channel input register. IQSEL = 0 latches the data into the Q channel input register. In two-port mode, this (See Datasheet)", 32 ONEPORTCLK/P2B12 (io) "With the PLL disabled and the AD9773 in one-port mode, this pin becomes a clock output that runs at twice the input data rate of the I and Q channels. This allows the AD9773 to accept and demux interleaved I and Q data to (See Datasheet)", 33 P2B11 (in) "Port 2 Data Input.", 34 P2B10 (in) "Port 2 Data Input.", 37 P2B9 (in) "Port 2 Data Input.", 38 P2B8 (in) "Port 2 Data Input.", 39 P2B7 (in) "Port 2 Data Input.", 40 P2B6 (in) "Port 2 Data Input.", 41 P2B5 (in) "Port 2 Data Input.", 42 P2B4 (in) "Port 2 Data Input.", 45 P2B3 (in) "Port 2 Data Input.", 46 P2B2 (in) "Port 2 Data Input.", 47 P2B1 (in) "Port 2 Data Input.", 48 P2B0 (LSB) (in) "Port 2 Data Input.", 68 IOUTB2 (out) "Differential DAC Current Output, Q Channel.", 69 IOUTA2 (out) "Differential DAC Current Output, Q Channel.", 72 IOUTB1 (out) "Differential DAC Current Output, I Channel.", 73 IOUTA1 (out) "Differential DAC Current Output, I Channel."
part B pins: 2 LPF "PLL Loop Filter.", 5 CLK+ (in) "Differential Clock Input.", 6 CLK- (in) "Differential Clock Input.", 8 DATACLK/PLL_LOCK (io) "With the PLL enabled, this pin indicates the state of the PLL. A read of a Logic 1 indicates the PLL is in the locked state. Logic 0 indicates the PLL has not achieved lock. This pin can also be programmed to act as either (See Datasheet)", 29 NC "No Connect.", 30 NC "No Connect.", 49 NC "No Connect.", 50 NC "No Connect.", 53 SPI_SDO (hiz) "In the case where SDIO is an input, SDO acts as an output. When SDIO becomes an output, SDO enters a high-Z state. This pin can also be used as an output for the data rate clock. For more information, see the Two-Port Data (See Datasheet)", 54 SPI_SDIO (io) "Bidirectional Data Pin. Data direction is controlled by Bit 7 of Register Address 0x00. The default setting for this bit is 0, which sets SDIO as an input.", 55 SPI_CLK (in) "Data input to the SPI port is registered on the rising edge of SPI_CLK. Data output on the SPI port is registered on the falling edge.", 56 SPI_CSB (in) "Chip Select/SPI Data Synchronization. On momentary logic high, resets SPI port logic and initializes instruction cycle.", 57 RESET (in) "Logic 1 resets all of the SPI port registers, including Address 0x00, to their default values. A software reset can also be done by writing a Logic 1 to SPI Register 0x00, Bit 5. However, the software reset has no effect on (See Datasheet)", 58 REFIO (out) "Reference Output, 1.2 V Nominal.", 59 FSADJ2 (in) "Full-Scale Current Adjust, Q Channel.", 60 FSADJ1 (in) "Full-Scale Current Adjust, I Channel."
part C pins: 1 CLKVDD (power) "Clock Supply Voltage.", 3 CLKVDD (power) "Clock Supply Voltage.", 4 CLKGND (power) "Clock Supply Common.", 7 CLKGND (power) "Clock Supply Common.", 9 DGND (power) "Digital Common.", 10 DVDD (power) "Digital Supply Voltage.", 17 DGND (power) "Digital Common.", 18 DVDD (power) "Digital Supply Voltage.", 25 DGND (power) "Digital Common.", 26 DVDD (power) "Digital Supply Voltage.", 35 DGND (power) "Digital Common.", 36 DVDD (power) "Digital Supply Voltage.", 43 DVDD (power) "Digital Supply Voltage.", 44 DGND (power) "Digital Common.", 51 DVDD (power) "Digital Supply Voltage.", 52 DGND (power) "Digital Common.", 61 AVDD (power) "Analog Supply Voltage.", 62 AGND (power) "Analog Common.", 63 AVDD (power) "Analog Supply Voltage.", 64 AGND (power) "Analog Common.", 65 AVDD (power) "Analog Supply Voltage.", 66 AGND (power) "Analog Common.", 67 AGND (power) "Analog Common.", 70 AGND (power) "Analog Common.", 71 AGND (power) "Analog Common.", 74 AGND (power) "Analog Common.", 75 AGND (power) "Analog Common.", 76 AVDD (power) "Analog Supply Voltage.", 77 AGND (power) "Analog Common.", 78 AVDD (power) "Analog Supply Voltage.", 79 AGND (power) "Analog Common.", 80 AVDD (power) "Analog Supply Voltage.", 81 EP "Exposed Pad."

## AD9778ABSVZ
designator U?
Dual 14-Bit Digital-to-Analog Converter, 1 Gsps, -40 to +85 degC, SV-100-1, Pb-Free, Tray; Generic Part Number: AD9778A; Manufacturer: Analog Devices; PartNumber: AD9778ABSVZ; # DAC Outputs: 2; Max V+: 3.47V; Op Pwr Diss: 300mW; Resolution (Bits): 14; Single Supply: No; DatasheetVersion: Rev.B; PackageVersion: 040506-A; PackageReference: SV-100-1; PackageDescription: 100-Lead Thin Quad Flat Package, Exposed Pad [TQFP_EP]; Supplier 1: Digi-Key; Supplier Part Number 1: AD9778ABSVZ-ND; Supplier 2: Newark; Supplier Part Number 2: 52M3012; Supplier 3: Mouser; Supplier Part Number 3: 584-AD9778ABSVZ; Packing: Tray; RoHS: Y; Mounting Technology: Surface Mount; Code_JEDEC: MS-026-AED-HD; ComponentLink1Description: Manufacturer URL; ComponentLink1URL: http://www.analog.com/en/index.html; ComponentLink2Description: Datasheet; ComponentLink2URL: http://www.analog.com/static/imported-files/data_sheets/AD9776A_AD9778A_AD9779A.pdf; ComponentLink3Description: Package Specification; ComponentLink3URL: http://www.analog.com/static/imported-files/packages/PKG_PDF/TQFP_ED(SV)/SV_100_1.pdf; ComponentLink4Description: Product URL; ComponentLink4URL: http://www.analog.com/en/digital-to-analog-converters/da-converters/ad9778a/products/product.html
footprint SV-100-1_N (Thin QFP, 100-Leads, Body 14x14mm, Pitch 0.5mm, Thermal Pad 6.5x6.5mm, IPC Medium Density)
footprint SV-100-1_L (Thin QFP, 100-Leads, Body 14x14mm, Pitch 0.5mm, Thermal Pad 6.5x6.5mm, IPC High Density)
footprint SV-100-1_M (Thin QFP, 100-Leads, Body 14x14mm, Pitch 0.5mm, Thermal Pad 6.5x6.5mm, IPC Low Density)
part A pins: 17 P1D13 (in) "Port 1, Data Input D13 (MSB).", 18 P1D12 (in) "Port 1, Data Input D12.", 19 P1D11 (in) "Port 1, Data Input D11.", 20 P1D10 (in) "Port 1, Data Input D10.", 21 P1D9 (in) "Port 1, Data Input D9.", 24 P1D8 (in) "Port 1, Data Input D8.", 25 P1D7 (in) "Port 1, Data Input D7.", 26 P1D6 (in) "Port 1, Data Input D6.", 27 P1D5 (in) "Port 1, Data Input D5.", 28 P1D4 (in) "Port 1, Data Input D4.", 29 P1D3 (in) "Port 1, Data Input D3.", 30 P1D2 (in) "Port 1, Data Input D2.", 31 P1D1 (in) "Port 1, Data Input D1.", 34 P1D0 (in) "Port 1, Data Input D0 (LSB).", 40 P2D13 (in) "Port 2, Data Input D13 (MSB).", 41 P2D12 (in) "Port 2, Data Input D12.", 42 P2D11 (in) "Port 2, Data Input D11.", 45 P2D10 (in) "Port 2, Data Input D10.", 46 P2D9 (in) "Port 2, Data Input D9.", 47 P2D8 (in) "Port 2, Data Input D8.", 48 P2D7 (in) "Port 2, Data Input D7.", 49 P2D6 (in) "Port 2, Data Input D6.", 50 P2D5 (in) "Port 2, Data Input D5.", 51 P2D4 (in) "Port 2, Data Input D4.", 52 P2D3 (in) "Port 2, Data Input D3.", 55 P2D2 (in) "Port 2, Data Input D2.", 56 P2D1 (in) "Port 2, Data Input D1.", 57 P2D0 (in) "Port 2, Data Input D0 (LSB).", 83 OUT2_P (out) "Differential DAC Current Output, Channel 2.", 84 OUT2_N (out) "Differential DAC Current Output, Channel 2.", 86 AUX2_P (hiz) "Auxiliary DAC Current Output, Channel 2.", 87 AUX2_N (hiz) "Auxiliary DAC Current Output, Channel 2.", 89 AUX1_N (hiz) "Auxiliary DAC Current Output, Channel 1.", 90 AUX1_P (hiz) "Auxiliary DAC Current Output, Channel 1.", 92 OUT1_N (out) "Differential DAC Current Output, Channel 1.", 93 OUT1_P (out) "Differential DAC Current Output, Channel 1."
part B pins: 5 REFCLK+ (in) "Differential Clock Input.", 6 REFCLK- (in) "Differential Clock Input.", 13 SYNC_I+ (in) "Differential Synchronization Input.", 14 SYNC_I- (in) "Differential Synchronization Input.", 35 NC "No Connect.", 36 NC "No Connect.", 37 DATACLK (out) "Data Clock Output.", 39 TXENABLE/ IQSELECT (in) "Transmit Enable. In single port mode, this pin also functions as IQSELECT.", 58 NC "No Connect.", 59 NC "No Connect.", 62 SYNC_O- (out) "Differential Synchronization Output.", 63 SYNC_O+ (out) "Differential Synchronization Output.", 65 PLL_LOCK (out) "PLL Lock Indicator.", 66 SDO (hiz) "3-Wire Interface Port Data Output.", 67 SDIO (io) "3-Wire Interface Port Data Input/Output.", 68 SCLK (in) "3-Wire Interface Port Clock.", 69 CSB (in) "3-Wire Interface Port Chip Select Bar.", 70 RESET (in) "Reset, Active High.", 71 IRQ (oc) "Interrupt Request.", 73 IPTAT "Factory Test Pin. Output current is proportional to absolute temperature, approximately 14 uA at 25degreesC with approximately 20 nA/degreesC slope. This pin should remain floating.", 74 VREF (out) "Voltage Reference Output.", 75 I120 "120 uA Reference Current."
part C pins: 1 CVDD18 (power) "1.8 V Clock Supply.", 2 CVDD18 (power) "1.8 V Clock Supply.", 3 CGND (power) "Clock Ground.", 4 CGND (power) "Clock Common.", 7 CGND (power) "Clock Ground.", 8 CGND (power) "Clock Ground.", 9 CVDD18 (power) "1.8 V Clock Supply.", 10 CVDD18 (power) "1.8 V Clock Supply.", 11 CGND (power) "Clock Ground.", 12 AGND (power) "Analog Ground.", 15 DGND (power) "Digital Ground.", 16 DVDD18 (power) "1.8 V Digital Supply.", 22 DGND (power) "Digital Ground.", 23 DVDD18 (power) "1.8 V Digital Supply.", 32 DGND (power) "Digital Ground.", 33 DVDD18 (power) "1.8 V Digital Supply.", 38 DVDD33 (power) "3.3 V Digital Supply.", 43 DVDD18 (power) "1.8 V Digital Supply.", 44 DGND (power) "Digital Ground.", 53 DVDD18 (power) "1.8 V Digital Supply.", 54 DGND (power) "Digital Ground.", 60 DVDD18 (power) "1.8 V Digital Supply.", 61 DVDD33 (power) "3.3 V Digital Supply.", 64 DGND (power) "Digital Ground.", 72 AGND (power) "Analog Ground.", 76 AVDD33 (power) "3.3 V Analog Supply.", 77 AGND (power) "Analog Ground.", 78 AVDD33 (power) "3.3 V Analog Supply.", 79 AGND (power) "Analog Ground.", 80 AVDD33 (power) "3.3 V Analog Supply.", 81 AGND (power) "Analog Ground.", 82 AGND (power) "Analog Ground.", 85 AGND (power) "Analog Ground.", 88 AGND (power) "Analog Ground.", 91 AGND (power) "Analog Ground.", 94 AGND (power) "Analog Ground.", 95 AGND (power) "Analog Ground.", 96 AVDD33 (power) "3.3 V Analog Supply.", 97 AGND (power) "Analog Ground.", 98 AVDD33 (power) "3.3 V Analog Supply.", 99 AGND (power) "Analog Ground.", 100 AVDD33 (power) "3.3 V Analog Supply.", 101 EP (power) "Expose pad"

## AD9778ABSVZRL
designator U?
Dual 14-Bit Digital-to-Analog Converter, 1 Gsps, -40 to +85 degC, SV-100-1, Pb-Free, Reel; Generic Part Number: AD9778A; Manufacturer: Analog Devices; PartNumber: AD9778ABSVZRL; # DAC Outputs: 2; Max V+: 3.47V; Op Pwr Diss: 300mW; Resolution (Bits): 14; Single Supply: No; DatasheetVersion: Rev.B; PackageVersion: 040506-A; PackageReference: SV-100-1; PackageDescription: 100-Lead Thin Quad Flat Package, Exposed Pad [TQFP_EP]; Supplier 1: Digi-Key; Supplier Part Number 1: AD9778ABSVZRL-ND; Supplier 2: Newark; Supplier Part Number 2: 52M3013; Supplier 3: Mouser; Supplier Part Number 3: 584-AD9778ABSVZR; Packing: Reel; RoHS: Y; Mounting Technology: Surface Mount; Code_JEDEC: MS-026-AED-HD; ComponentLink1Description: Manufacturer URL; ComponentLink1URL: http://www.analog.com/en/index.html; ComponentLink2Description: Datasheet; ComponentLink2URL: http://www.analog.com/static/imported-files/data_sheets/AD9776A_AD9778A_AD9779A.pdf; ComponentLink3Description: Package Specification; ComponentLink3URL: http://www.analog.com/static/imported-files/packages/PKG_PDF/TQFP_ED(SV)/SV_100_1.pdf; ComponentLink4Description: Product URL; ComponentLink4URL: http://www.analog.com/en/digital-to-analog-converters/da-converters/ad9778a/products/product.html
footprint SV-100-1_N (Thin QFP, 100-Leads, Body 14x14mm, Pitch 0.5mm, Thermal Pad 6.5x6.5mm, IPC Medium Density)
footprint SV-100-1_L (Thin QFP, 100-Leads, Body 14x14mm, Pitch 0.5mm, Thermal Pad 6.5x6.5mm, IPC High Density)
footprint SV-100-1_M (Thin QFP, 100-Leads, Body 14x14mm, Pitch 0.5mm, Thermal Pad 6.5x6.5mm, IPC Low Density)
part A pins: 17 P1D13 (in) "Port 1, Data Input D13 (MSB).", 18 P1D12 (in) "Port 1, Data Input D12.", 19 P1D11 (in) "Port 1, Data Input D11.", 20 P1D10 (in) "Port 1, Data Input D10.", 21 P1D9 (in) "Port 1, Data Input D9.", 24 P1D8 (in) "Port 1, Data Input D8.", 25 P1D7 (in) "Port 1, Data Input D7.", 26 P1D6 (in) "Port 1, Data Input D6.", 27 P1D5 (in) "Port 1, Data Input D5.", 28 P1D4 (in) "Port 1, Data Input D4.", 29 P1D3 (in) "Port 1, Data Input D3.", 30 P1D2 (in) "Port 1, Data Input D2.", 31 P1D1 (in) "Port 1, Data Input D1.", 34 P1D0 (in) "Port 1, Data Input D0 (LSB).", 40 P2D13 (in) "Port 2, Data Input D13 (MSB).", 41 P2D12 (in) "Port 2, Data Input D12.", 42 P2D11 (in) "Port 2, Data Input D11.", 45 P2D10 (in) "Port 2, Data Input D10.", 46 P2D9 (in) "Port 2, Data Input D9.", 47 P2D8 (in) "Port 2, Data Input D8.", 48 P2D7 (in) "Port 2, Data Input D7.", 49 P2D6 (in) "Port 2, Data Input D6.", 50 P2D5 (in) "Port 2, Data Input D5.", 51 P2D4 (in) "Port 2, Data Input D4.", 52 P2D3 (in) "Port 2, Data Input D3.", 55 P2D2 (in) "Port 2, Data Input D2.", 56 P2D1 (in) "Port 2, Data Input D1.", 57 P2D0 (in) "Port 2, Data Input D0 (LSB).", 83 OUT2_P (out) "Differential DAC Current Output, Channel 2.", 84 OUT2_N (out) "Differential DAC Current Output, Channel 2.", 86 AUX2_P (hiz) "Auxiliary DAC Current Output, Channel 2.", 87 AUX2_N (hiz) "Auxiliary DAC Current Output, Channel 2.", 89 AUX1_N (hiz) "Auxiliary DAC Current Output, Channel 1.", 90 AUX1_P (hiz) "Auxiliary DAC Current Output, Channel 1.", 92 OUT1_N (out) "Differential DAC Current Output, Channel 1.", 93 OUT1_P (out) "Differential DAC Current Output, Channel 1."
part B pins: 5 REFCLK+ (in) "Differential Clock Input.", 6 REFCLK- (in) "Differential Clock Input.", 13 SYNC_I+ (in) "Differential Synchronization Input.", 14 SYNC_I- (in) "Differential Synchronization Input.", 35 NC "No Connect.", 36 NC "No Connect.", 37 DATACLK (out) "Data Clock Output.", 39 TXENABLE/ IQSELECT (in) "Transmit Enable. In single port mode, this pin also functions as IQSELECT.", 58 NC "No Connect.", 59 NC "No Connect.", 62 SYNC_O- (out) "Differential Synchronization Output.", 63 SYNC_O+ (out) "Differential Synchronization Output.", 65 PLL_LOCK (out) "PLL Lock Indicator.", 66 SDO (hiz) "3-Wire Interface Port Data Output.", 67 SDIO (io) "3-Wire Interface Port Data Input/Output.", 68 SCLK (in) "3-Wire Interface Port Clock.", 69 CSB (in) "3-Wire Interface Port Chip Select Bar.", 70 RESET (in) "Reset, Active High.", 71 IRQ (oc) "Interrupt Request.", 73 IPTAT "Factory Test Pin. Output current is proportional to absolute temperature, approximately 14 uA at 25degreesC with approximately 20 nA/degreesC slope. This pin should remain floating.", 74 VREF (out) "Voltage Reference Output.", 75 I120 "120 uA Reference Current."
part C pins: 1 CVDD18 (power) "1.8 V Clock Supply.", 2 CVDD18 (power) "1.8 V Clock Supply.", 3 CGND (power) "Clock Ground.", 4 CGND (power) "Clock Common.", 7 CGND (power) "Clock Ground.", 8 CGND (power) "Clock Ground.", 9 CVDD18 (power) "1.8 V Clock Supply.", 10 CVDD18 (power) "1.8 V Clock Supply.", 11 CGND (power) "Clock Ground.", 12 AGND (power) "Analog Ground.", 15 DGND (power) "Digital Ground.", 16 DVDD18 (power) "1.8 V Digital Supply.", 22 DGND (power) "Digital Ground.", 23 DVDD18 (power) "1.8 V Digital Supply.", 32 DGND (power) "Digital Ground.", 33 DVDD18 (power) "1.8 V Digital Supply.", 38 DVDD33 (power) "3.3 V Digital Supply.", 43 DVDD18 (power) "1.8 V Digital Supply.", 44 DGND (power) "Digital Ground.", 53 DVDD18 (power) "1.8 V Digital Supply.", 54 DGND (power) "Digital Ground.", 60 DVDD18 (power) "1.8 V Digital Supply.", 61 DVDD33 (power) "3.3 V Digital Supply.", 64 DGND (power) "Digital Ground.", 72 AGND (power) "Analog Ground.", 76 AVDD33 (power) "3.3 V Analog Supply.", 77 AGND (power) "Analog Ground.", 78 AVDD33 (power) "3.3 V Analog Supply.", 79 AGND (power) "Analog Ground.", 80 AVDD33 (power) "3.3 V Analog Supply.", 81 AGND (power) "Analog Ground.", 82 AGND (power) "Analog Ground.", 85 AGND (power) "Analog Ground.", 88 AGND (power) "Analog Ground.", 91 AGND (power) "Analog Ground.", 94 AGND (power) "Analog Ground.", 95 AGND (power) "Analog Ground.", 96 AVDD33 (power) "3.3 V Analog Supply.", 97 AGND (power) "Analog Ground.", 98 AVDD33 (power) "3.3 V Analog Supply.", 99 AGND (power) "Analog Ground.", 100 AVDD33 (power) "3.3 V Analog Supply.", 101 EP (power) "Expose pad"